# EAGLE library part PINHEAD_1X7 (library OPLLib)
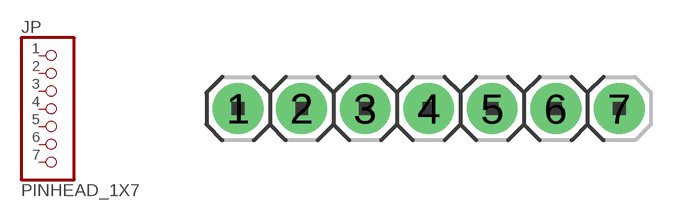
[diagram p7: symbol with the pads of PINHEAD_1X7; footprint PINHEAD_1X7]

Designator prefix JP

## PINHEAD_1X7  [PINHEAD_1X7]
1  1  pas
2  2  pas
3  3  pas
4  4  pas
5  5  pas
6  6  pas
7  7  pas

## Footprint PINHEAD_1X7 (pad centres in mm)
drill 1.016 pad 2.032: 1 -7.62,0; 2 -5.08,0; 3 -2.54,0; 4 0,0; 5 2.54,0; 6 5.08,0; 7 7.62,0